# Altium integrated library CC0603JRX7R8BB104.IntLib: 1 symbol
Pins are listed as number, name and electrical type; pins without a type are passive.

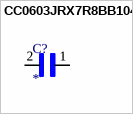
[diagram p0: symbol CC0603JRX7R8BB104]

## CC0603JRX7R8BB104
designator C?
0603 0.1 uF 25 V Â±5 % Tolerance X7R SMT Multilayer Ceramic Capacitor; MP: CC0603JRX7R8BB104; Package: None; Price: None; Value: *; Availability: Unavailable
footprint CAPC1608X90
pins: 1, 2